# EAGLE library part OPA124 (library burr-brown)
Difet Operational Amplifier Low Noise, Precision
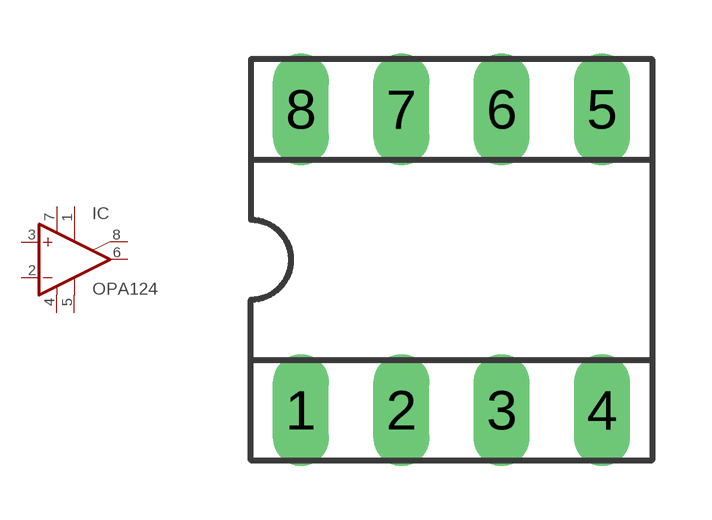
[diagram p53: symbol with the pads of DIL08; footprint DIL08]

Designator prefix IC

## OPA124P  [DIL08]
1  TRIM1  pas
2  -IN  in
3  +IN  in
4  V-  pwr
5  TRIM2  pas
6  OUT  out
7  V+  pwr
8  SUBS  pas

## Footprint DIL08 (pad centres in mm)
Dual In Line
drill 0.813 pad 1.422 long: 1 -3.81,-3.81; 2 -1.27,-3.81; 3 1.27,-3.81; 4 3.81,-3.81; 5 3.81,3.81; 6 1.27,3.81; 7 -1.27,3.81; 8 -3.81,3.81